# Altium footprint library MLACHL_L.PCBLIB: 254 footprints (part 6 of 16)
Each footprint in its own frame and in the unit in brackets; x right, y up, seen from the top. Pads: shape width x height; smd on the part's side, far side on the other; paste and mask are expansions set on the pad; w line width, h text height; cw(c..) or ccw(c..) is an arc to the next point about the centre after c.
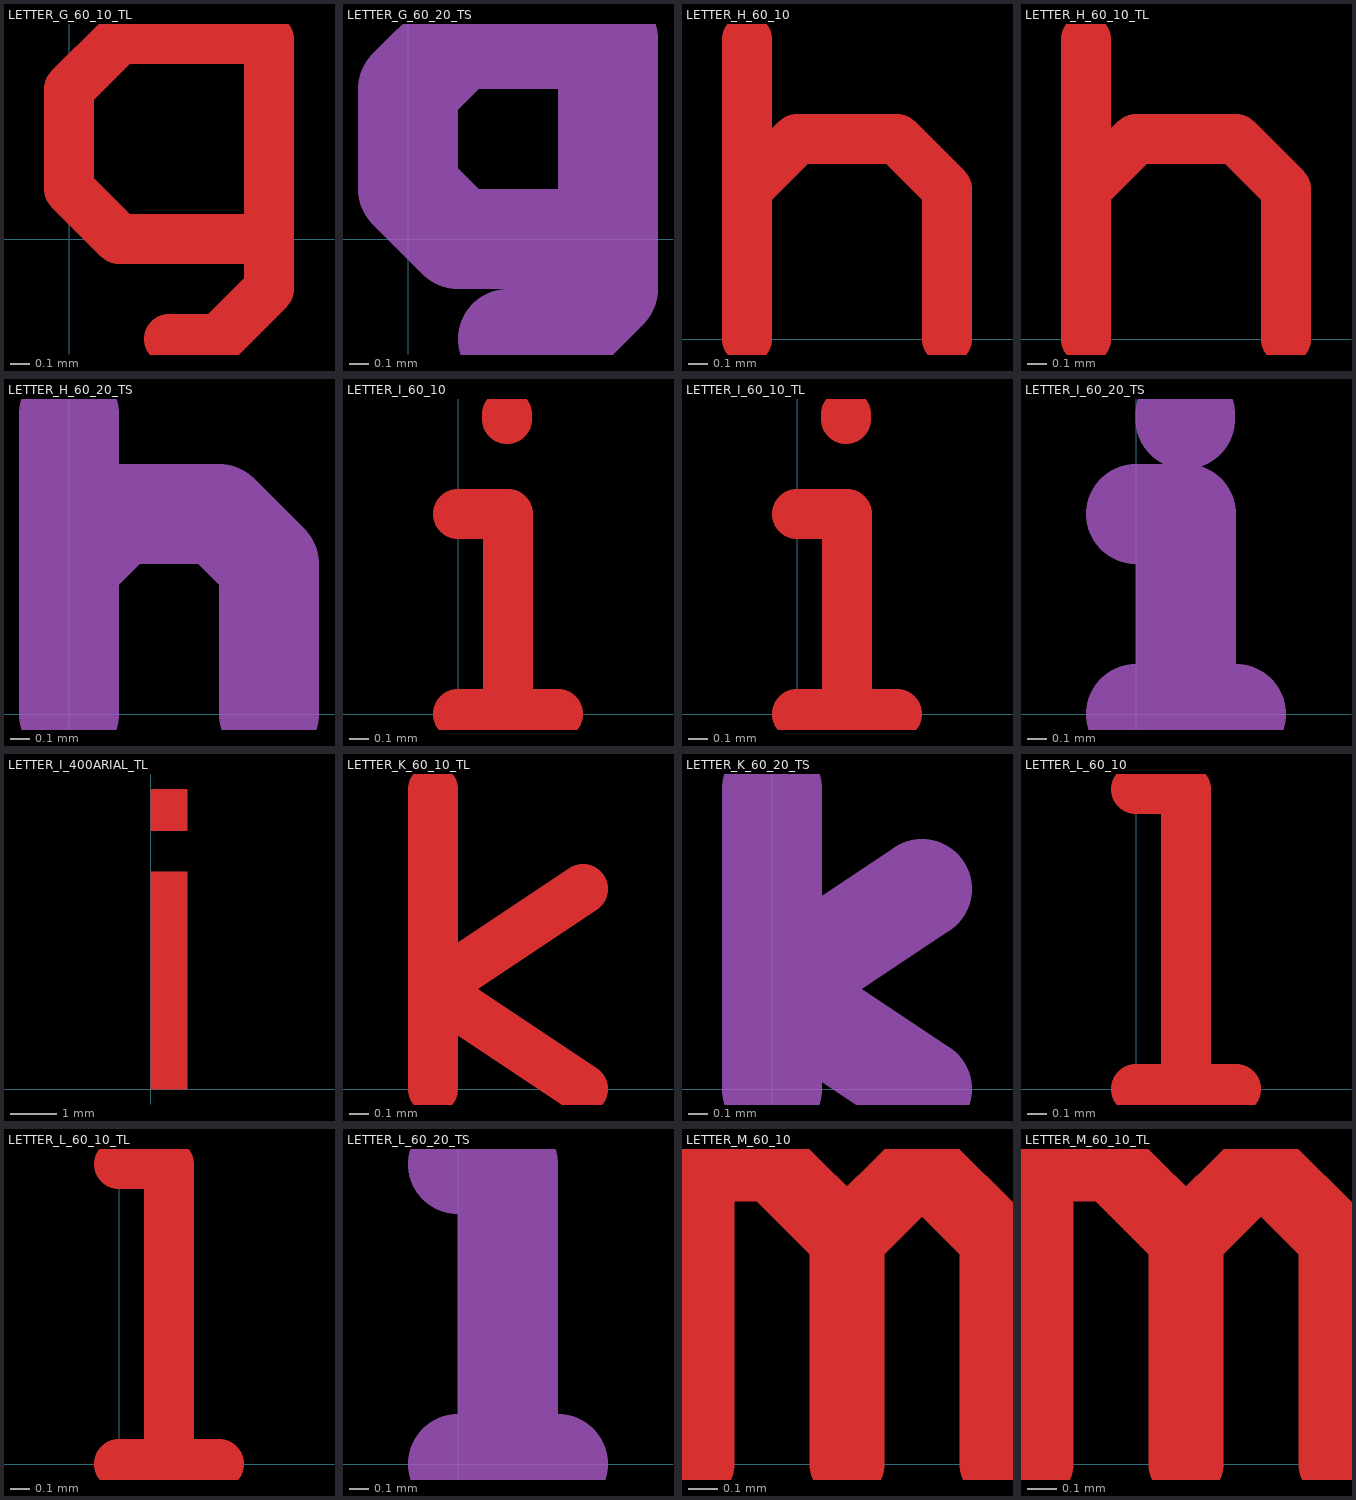
[diagram p5: the footprints below, top view; thin cyan lines are the x and y axes]

## LETTER_G_60_10_TL [mm]
TopLayer:
  lines w0.254: 0.508,-0.508 0.762,-0.508 1.016,-0.254 1.016,1.016 0.254,1.016 0,0.762 0,0.254 0.254,0 1.016,0
3D body: height 0.3, standoff 0, extent -0.127,-0.635 1.143,1.143

## LETTER_G_60_20_TS [mm]
TopSolder:
  lines w0.508: 0.508,-0.508 0.762,-0.508 1.016,-0.254 1.016,1.016 0.254,1.016 0,0.762 0,0.254 0.254,0 1.016,0

## LETTER_H_60_10 [mm]
TopLayer:
  lines w0.254: 0,0 0,1.524 ; 0,0.762 0.254,1.016 0.762,1.016 1.016,0.762 1.016,0
TopSolder:
  lines w0.508: 0,0 0,1.524 ; 0,0.762 0.254,1.016 0.762,1.016 1.016,0.762 1.016,0
3D body: height 0.3, standoff 0, extent -0.127,-0.127 1.143,1.651

## LETTER_H_60_10_TL [mm]
TopLayer:
  lines w0.254: 0,0 0,1.524 ; 0,0.762 0.254,1.016 0.762,1.016 1.016,0.762 1.016,0
3D body: height 0.3, standoff 0, extent -0.127,-0.127 1.143,1.651

## LETTER_H_60_20_TS [mm]
TopSolder:
  lines w0.508: 0,0 0,1.524 ; 0,0.762 0.254,1.016 0.762,1.016 1.016,0.762 1.016,0

## LETTER_I_60_10 [mm]
TopLayer:
  lines w0.254: 0,0 0.508,0 ; 0,1.016 0.254,1.016 0.254,0 ; 0.25,1.5 0.25,1.525
TopSolder:
  lines w0.508: 0,0 0.508,0 ; 0,1.016 0.254,1.016 0.254,0 ; 0.25,1.5 0.25,1.525
3D body: height 0.3, standoff 0, extent 0.127,1.397 0.38,1.65
3D body: height 0.3, standoff 0, extent -0.127,-0.127 0.635,1.143

## LETTER_I_60_10_TL [mm]
TopLayer:
  lines w0.254: 0,0 0.508,0 ; 0,1.016 0.254,1.016 0.254,0 ; 0.25,1.5 0.25,1.525
3D body: height 0.3, standoff 0, extent 0.127,1.397 0.38,1.65
3D body: height 0.3, standoff 0, extent -0.127,-0.127 0.635,1.143

## LETTER_I_60_20_TS [mm]
TopSolder:
  lines w0.508: 0,0 0.508,0 ; 0,1.016 0.254,1.016 0.254,0 ; 0.25,1.5 0.25,1.525

## LETTER_I_400ARIAL_TL [mm]
TopLayer:
  region: 0,5.606 0.803,5.606 0.803,6.518 0,6.518
  region: 0,0 0.803,0 0.803,4.722 0,4.722

## LETTER_K_60_10_TL [mm]
TopLayer:
  lines w0.254: 0,0 0,1.524 ; 0.762,0 0,0.508 0.762,1.016
3D body: height 0.3, standoff 0, extent -0.127,-0.127 0.889,1.651

## LETTER_K_60_20_TS [mm]
TopSolder:
  lines w0.508: 0,0 0,1.524 ; 0.762,0 0,0.508 0.762,1.016

## LETTER_L_60_10 [mm]
TopLayer:
  lines w0.254: 0,0 0.508,0 ; 0,1.524 0.254,1.524 0.254,0
TopSolder:
  lines w0.508: 0,0 0.508,0 ; 0,1.524 0.254,1.524 0.254,0
3D body: height 0.3, standoff 0, extent -0.127,-0.127 0.635,1.651

## LETTER_L_60_10_TL [mm]
TopLayer:
  lines w0.254: 0,0 0.508,0 ; 0,1.524 0.254,1.524 0.254,0
3D body: height 0.3, standoff 0, extent -0.127,-0.127 0.635,1.651

## LETTER_L_60_20_TS [mm]
TopSolder:
  lines w0.508: 0,0 0.508,0 ; 0,1.524 0.254,1.524 0.254,0

## LETTER_M_60_10 [mm]
TopLayer:
  lines w0.254: 0,0 0,1.016 0.254,1.016 0.508,0.762 ; 0.508,0 0.508,0.762 ; 1.016,0 1.016,0.762 0.762,1.016 0.508,0.762
TopSolder:
  lines w0.508: 0,0 0,1.016 0.254,1.016 0.508,0.762 ; 0.508,0 0.508,0.762 ; 1.016,0 1.016,0.762 0.762,1.016 0.508,0.762
3D body: height 0.3, standoff 0, extent -0.127,-0.127 1.143,1.143

## LETTER_M_60_10_TL [mm]
TopLayer:
  lines w0.254: 0,0 0,1.016 0.254,1.016 0.508,0.762 ; 0.508,0 0.508,0.762 ; 1.016,0 1.016,0.762 0.762,1.016 0.508,0.762
3D body: height 0.3, standoff 0, extent -0.127,-0.127 1.143,1.143